# Altium schematic symbol library 12 RESISTORS_THD_AX14_8mm_S.SchLib: 9 symbols
Pins are listed as number, name and electrical type; pins without a type are passive.

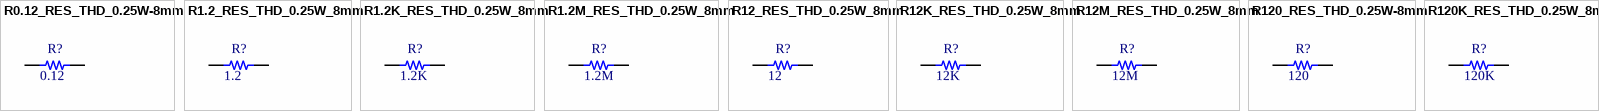
[diagram p0: symbols R0.12_RES_THD_0.25W-8mm to R120K_RES_THD_0.25W_8mm]

## R0.12_RES_THD_0.25W-8mm
designator R?  value 0.12  (hidden comment: *)
RESISTOR_0.12Ohm_THD_0.25W-8mm; Pacakge: THT; Rating: 0.25W; Type: 5%
footprint R0.12_RES_THD_AX14_0.25W (RESISTOR 0.12 Ohm  THD AX14 0.25W Length  8mm)
pins: 1, 2

## R1.2_RES_THD_0.25W_8mm
designator R?  value 1.2  (hidden comment: *)
RESISTOR_1.2Ohm_THD_0.25W-8mm; Pacakge: THT; Rating: 0.25W; Type: 5%
footprint R1.2_RES_THD_AX14_0.25W (RESISTOR 1.2 Ohm  THD AX14 0.25W Length  8mm)
pins: 1, 2

## R1.2K_RES_THD_0.25W_8mm
designator R?  value 1.2K  (hidden comment: *)
RESISTOR_1.2KOhm_THD_0.25W-8mm; Pacakge: THT; Rating: 0.25W; Type: 5%
footprint R1.2K_RES_THD_AX14_0.25W (RESISTOR 1.2K Ohm  THD AX14 0.25W Length  8mm)
pins: 1, 2

## R1.2M_RES_THD_0.25W_8mm
designator R?  value 1.2M  (hidden comment: *)
RESISTOR_1.2MOhm_THD_0.25W-8mm; Pacakge: THT; Rating: 0.25W; Type: 5%
footprint R1.2M_RES_THD_AX14_0.25W (RESISTOR 1.2M Ohm  THD AX14 0.25W Length  8mm)
pins: 1, 2

## R12_RES_THD_0.25W_8mm
designator R?  value 12  (hidden comment: *)
RESISTOR_12Ohm_THD_0.25W-8mm; Pacakge: THT; Rating: 0.25W; Type: 5%; Parameter 1: *
footprint R12_RES_THD_AX14_0.25W (RESISTOR 12 Ohm  THD AX14 0.25W Length  8mm)
pins: 1, 2

## R12K_RES_THD_0.25W_8mm
designator R?  value 12K  (hidden comment: *)
RESISTOR_12KOhm_THD_0.25W-8mm; Pacakge: THT; Rating: 0.25W; Type: 5%
footprint R12K_RES_THD_AX14_0.25W (RESISTOR 12K Ohm  THD AX14 0.25W Length  8mm)
pins: 1, 2

## R12M_RES_THD_0.25W_8mm
designator R?  value 12M  (hidden comment: *)
RESISTOR_12MOhm_THD_0.25W-8mm; Pacakge: THT; Rating: 0.25W; Type: 5%
footprint R12M_RES_THD_AX14_0.25W (RESISTOR 12M Ohm  THD AX14 0.25W Length  8mm)
pins: 1, 2

## R120_RES_THD_0.25W-8mm
designator R?  value 120  (hidden comment: *)
RESISTOR_120Ohm_THD_0.25W-8mm; Pacakge: THT; Rating: 0.25W; Type: 5%; Parameter 1: *
footprint R120_RES_THD_AX14_0.25W (RESISTOR 120 Ohm  THD AX14 0.25W Length  8mm)
pins: 1, 2

## R120K_RES_THD_0.25W_8mm
designator R?  value 120K  (hidden comment: *)
RESISTOR_120KOhm_THD_0.25W-8mm; Pacakge: THT; Rating: 0.25W; Type: 5%
footprint R120K_RES_THD_AX14_0.25W (RESISTOR 120K Ohm  THD AX14 0.25W Length  8mm)
pins: 1, 2